# EAGLE library part ICL7667 (library Oles komponentbibliotek)
Dual Power MOSFET Driver
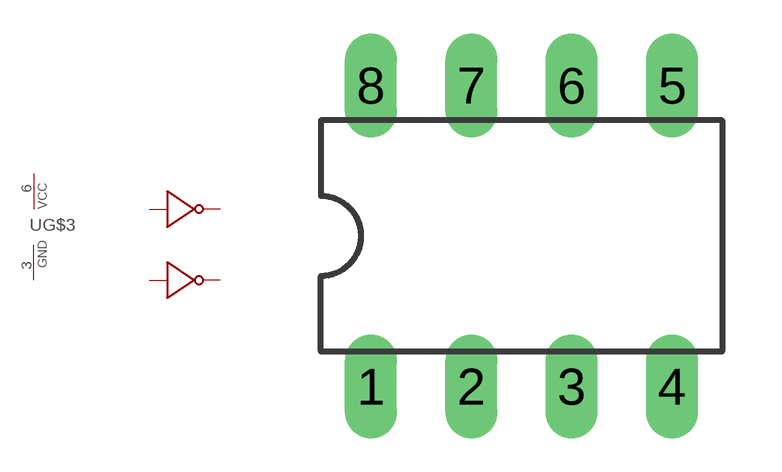
[diagram p11: symbol with the pads of DIL08; footprint DIL08]

Designator prefix -; gates G$1=BUFFER_INV G$2=BUFFER_INV G$3=PWRN

## ICL7667  [DIL08]
2  G$1:P$1  in
3  G$3:GND  pwr
4  G$2:P$1  in
5  G$2:P$3  out
6  G$3:VCC  pwr
7  G$1:P$3  out

## Footprint DIL08 (pad centres in mm)
Dual In Line Package
drill 0.813 long: 1 -3.81,-3.81; 2 -1.27,-3.81; 3 1.27,-3.81; 4 3.81,-3.81; 5 3.81,3.81; 6 1.27,3.81; 7 -1.27,3.81; 8 -3.81,3.81